# EAGLE library part AD827 (library Eagle_CAD_parts)
Dual, Low Power, Single-Supply DIFFERENCE AMPLIFIER
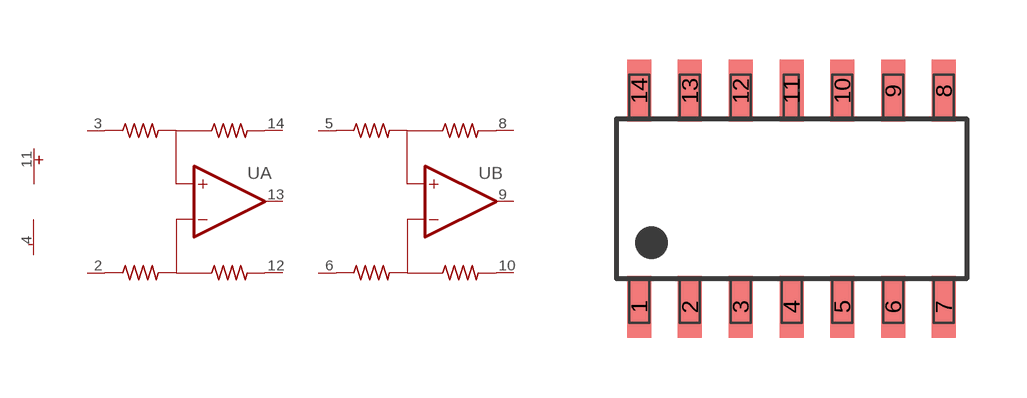
[diagram p86: symbol with the pads of SO-14; footprint SO-14]

Designator prefix U; gates A=OPAMP-DIFF B=OPAMP-DIFF SUP=ALIMENTACION

## AD8279ARZ (DIGIKEY_PART_NUMBER: AD8279ARZ-ND; MANUFACTURER_PART_NUMBER: AD8279ARZ; R1: 40 KOhm; R2: 20 KOhm; R3: 40 KOhm; R4: 20 KOhm; V_SUP: 2 ~ 36 V; V_SUP_DUAL: 2 ~ 18 V)  [SO-14]
2  A:-IN  in
3  A:+IN  in
4  SUP:V-  pwr
5  B:+IN  in
6  B:-IN  in
8  B:REF
9  B:OUT  oc
10  B:SENSE
11  SUP:V+  pwr
12  A:SENSE
13  A:OUT  oc
14  A:REF

## AD8273ARZ (DIGIKEY_PART_NUMBER: AD8273ARZ-ND; MANUFACTURER_PART_NUMBER: AD8273ARZ; R1: 12 KOhm; R2: 6 KOhm; R3: 12 KOhm; R4: 6 KOhm; V_SUPP: 36 V)  [SO-14]

## Footprint SO-14 (pad centres in mm)
smd 0.6 x 1.55: 1 -3.81,-2.7; 2 -2.54,-2.7; 3 -1.27,-2.7; 4 0,-2.7; 5 1.27,-2.7; 6 2.54,-2.7; 7 3.81,-2.7; 8 3.81,2.7; 9 2.54,2.7; 10 1.27,2.7; 11 0,2.7; 12 -1.27,2.7; 13 -2.54,2.7; 14 -3.81,2.7